# Altium footprint library SamacSys.PcbLib: 11 footprints
Each footprint in its own frame and in the unit in brackets; x right, y up, seen from the top. Pads: shape width x height; smd on the part's side, far side on the other; paste and mask are expansions set on the pad; w line width, h text height; cw(c..) or ccw(c..) is an arc to the next point about the centre after c.
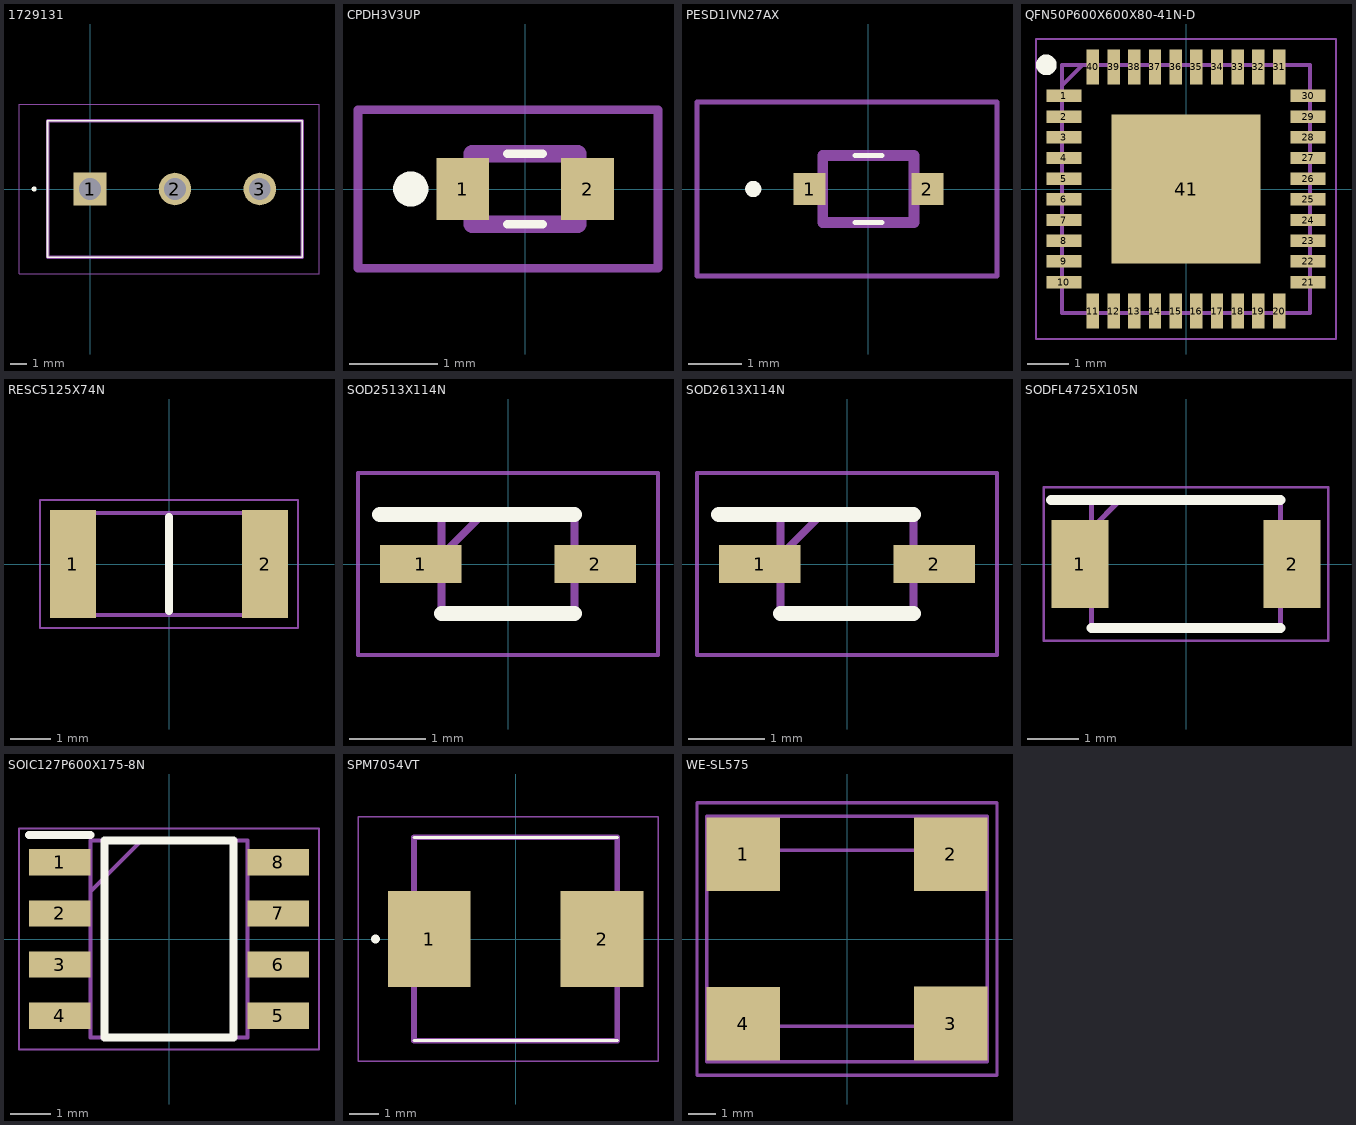
[diagram p0: the footprints below, top view; thin cyan lines are the x and y axes]

## 1729131 [mm]
pads (3):
  rect 1.95x1.95 hole 1.3: 1(0,0)
  round 1.95 hole 1.3: 2(5.08,0) 3(10.16,0)
Top Overlay:
  circle w0.2: c-3.35,0 r0.05
  lines w0.1: -2.54,-4.075 -2.54,4.075 12.7,4.075 12.7,-4.075 -2.54,-4.075
Mechanical 13:
  lines w0.2: -2.54,-4.075 -2.54,4.075 12.7,4.075 12.7,-4.075 -2.54,-4.075
Mechanical 15:
  lines w0.05: -4.25,-5.075 -4.25,5.075 13.7,5.075 13.7,-5.075 -4.25,-5.075
3D body "1729131.stp": height 10.17, standoff -3.33, extent -2.95,-4.05 12.64,4.05

## CPDH3V3UP [mm]
pads (2):
  rect 0.6x0.7 smd: 1(-0.71,0) 2(0.71,0)
Top Overlay:
  lines w0.1: -0.2,-0.4 0.2,-0.4 ; -0.2,0.4 0.2,0.4
  lines w0.2: -1.3,-0.1 cw(c-1.3,0) -1.3,0.1 cw(c-1.3,0) -1.3,-0.1
Mechanical 13:
  lines w0.2: -0.6,-0.4 -0.6,0.4 0.6,0.4 0.6,-0.4 -0.6,-0.4
Mechanical 15:
  lines w0.1: -1.9,-0.9 -1.9,0.9 1.51,0.9 1.51,-0.9 -1.9,-0.9
3D body "CPDH3V3UP.stp": height 0.87, standoff 0, extent -0.95,-0.4 0.95,0.4

## PESD1IVN27AX [mm]
pads (2):
  rect 0.6x0.6 smd: 1(-1.1,0) 2(1.1,0)
Top Overlay:
  lines w0.1: -0.25,-0.625 0.25,-0.625 -0.25,-0.625 ; -0.25,0.625 0.25,0.625 -0.25,0.625
  lines w0.2: -2.2,0 ccw(c-2.15,0) -2.1,0 ; -2.2,0 cw(c-2.15,0) -2.1,0 ; -2.2,0 ccw(c-2.15,0) -2.1,0
Mechanical 13:
  lines w0.2: -0.85,-0.625 -0.85,0.625 0.85,0.625 0.85,-0.625 -0.85,-0.625
Mechanical 15:
  lines w0.1: -3.2,-1.625 -3.2,1.625 2.4,1.625 2.4,-1.625 -3.2,-1.625
3D body "PESD1IVN27-AX.stp": height 1.2, standoff 0, extent -1.34,-0.625 1.34,0.625

## QFN50P600X600X80-41N-D [mm]
pads (41):
  rect 0.85x0.3 smd: 1(-2.95,2.25) 2(-2.95,1.75) 3(-2.95,1.25) 4(-2.95,0.75) 5(-2.95,0.25) 6(-2.95,-0.25) 7(-2.95,-0.75) 8(-2.95,-1.25) 9(-2.95,-1.75) 10(-2.95,-2.25) 21(2.95,-2.25) 22(2.95,-1.75) 23(2.95,-1.25) 24(2.95,-0.75) 25(2.95,-0.25) 26(2.95,0.25) 27(2.95,0.75) 28(2.95,1.25) 29(2.95,1.75) 30(2.95,2.25)
  rect 0.3x0.85 smd: 11(-2.25,-2.95) 12(-1.75,-2.95) 13(-1.25,-2.95) 14(-0.75,-2.95) 15(-0.25,-2.95) 16(0.25,-2.95) 17(0.75,-2.95) 18(1.25,-2.95) 19(1.75,-2.95) 20(2.25,-2.95) 31(2.25,2.95) 32(1.75,2.95) 33(1.25,2.95) 34(0.75,2.95) 35(0.25,2.95) 36(-0.25,2.95) 37(-0.75,2.95) 38(-1.25,2.95) 39(-1.75,2.95) 40(-2.25,2.95)
  rect 3.6x3.6 smd: 41(0,0)
Top Overlay:
  circle w0.25: c-3.375,3 r0.125
Mechanical 13:
  lines w0.1: -3,2.5 -2.5,3 ; -3,-3 3,-3 3,3 -3,3 -3,-3
Mechanical 15:
  lines w0.05: -3.625,-3.625 3.625,-3.625 3.625,3.625 -3.625,3.625 -3.625,-3.625
3D body "ADIN1100CCPZ.stp": height 0.8, standoff 0, extent -3.05,-3.05 3.05,3.05

## RESC5125X74N [mm]
pads (2):
  rect 1.15x2.7 smd: 1(-2.4,0) 2(2.4,0)
Top Overlay:
  lines w0.2: 0,-1.17 0,1.17
Mechanical 13:
  lines w0.1: -2.54,-1.27 -2.54,1.27 2.54,1.27 2.54,-1.27 -2.54,-1.27
Mechanical 15:
  lines w0.05: -3.225,-1.6 -3.225,1.6 3.225,1.6 3.225,-1.6 -3.225,-1.6

## SOD2513X114N [mm]
pads (2):
  rect 1.075x0.5 smd: 1(-1.15,0) 2(1.15,0)
Top Overlay:
  lines w0.2: -1.688,0.65 0.875,0.65 ; -0.875,-0.65 0.875,-0.65
Mechanical 13:
  lines w0.1: -0.875,0.112 -0.338,0.65 ; -0.875,-0.65 0.875,-0.65 0.875,0.65 -0.875,0.65 -0.875,-0.65
Mechanical 15:
  lines w0.05: -1.975,-1.2 1.975,-1.2 1.975,1.2 -1.975,1.2 -1.975,-1.2
3D body "CDSOD323-T36SC.stp": height 1.14, standoff 0, extent -1.272,-0.65 1.272,0.65

## SOD2613X114N [mm]
pads (2):
  rect 1.075x0.5 smd: 1(-1.15,0) 2(1.15,0)
Top Overlay:
  lines w0.2: -1.688,0.65 0.875,0.65 ; -0.875,-0.65 0.875,-0.65
Mechanical 13:
  lines w0.1: -0.875,0.112 -0.338,0.65 ; -0.875,-0.65 0.875,-0.65 0.875,0.65 -0.875,0.65 -0.875,-0.65
Mechanical 15:
  lines w0.05: -1.975,-1.2 1.975,-1.2 1.975,1.2 -1.975,1.2 -1.975,-1.2
3D body "SP4020-01FTG.stp": height 1.14, standoff 0, extent -1.298,-0.65 1.298,0.65

## SODFL4725X105N [mm]
pads (2):
  rect 1.12x1.72 smd: 1(-2.075,0) 2(2.075,0)
Top Overlay:
  lines w0.2: -2.635,1.25 1.85,1.25 ; -1.85,-1.25 1.85,-1.25
Mechanical 13:
  lines w0.1: -1.85,0.69 -1.29,1.25 ; -1.85,-1.25 1.85,-1.25 1.85,1.25 -1.85,1.25 -1.85,-1.25
Mechanical 15:
  lines w0.05: -2.785,-1.5 2.785,-1.5 2.785,1.5 -2.785,1.5 -2.785,-1.5
3D body "RB088LAM100TFTR.stp": height 1.05, standoff 0, extent -2.35,-1.25 2.35,1.25

## SOIC127P600X175-8N [mm]
pads (8):
  rect 1.525x0.65 smd: 1(-2.712,1.905) 2(-2.712,0.635) 3(-2.712,-0.635) 4(-2.712,-1.905) 5(2.712,-1.905) 6(2.712,-0.635) 7(2.712,0.635) 8(2.712,1.905)
Top Overlay:
  lines w0.2: -3.475,2.58 -1.95,2.58 ; -1.6,-2.45 1.6,-2.45 1.6,2.45 -1.6,2.45 -1.6,-2.45
Mechanical 13:
  lines w0.1: -1.95,1.18 -0.68,2.45 ; -1.95,-2.45 1.95,-2.45 1.95,2.45 -1.95,2.45 -1.95,-2.45
Mechanical 15:
  lines w0.05: -3.725,-2.75 3.725,-2.75 3.725,2.75 -3.725,2.75 -3.725,-2.75
3D body "NE555DR.stp": height 1.75, standoff 0, extent -3,-2.45 3,2.45

## SPM7054VT [mm]
pads (2):
  rect 2.85x3.3 smd: 1(-2.975,0) 2(2.975,0)
Top Overlay:
  circle w0.2: c-4.825,0 r0.05
  lines w0.1: -3.5,-3.5 3.5,-3.5 ; -3.5,3.5 3.5,3.5
Mechanical 13:
  lines w0.2: -3.5,-3.5 3.5,-3.5 3.5,3.5 -3.5,3.5 -3.5,-3.5
Mechanical 15:
  lines w0.05: -5.425,-4.2 4.9,-4.2 4.9,4.2 -5.425,4.2 -5.425,-4.2
3D body "SPM7054VT-101M-D.stp": height 5.25, standoff 0, extent -3.681,-3.5 3.819,3.5

## WE-SL575 [mm]
pads (4):
  rect 2.7x2.7 smd: 1(-3.81,3.11) 2(3.81,3.11) 3(3.81,-3.1) 4(-3.81,-3.11)
Mechanical 13:
  lines w0.127: -3.89,-3.2 3.7,-3.2 ; -3.67,3.26 4.05,3.26 ; -5.15,-4.5 5.15,-4.5 5.15,4.5 -5.15,4.5 -5.15,-4.5
Mechanical 15:
  lines w0.127: -5.5,-5 -5.5,5 5.5,5 5.5,-5 -5.5,-5